# Altium schematic symbol library Levitador_GMI.SchLib: 37 symbols
Pins are listed as number, name and electrical type; pins without a type are passive.

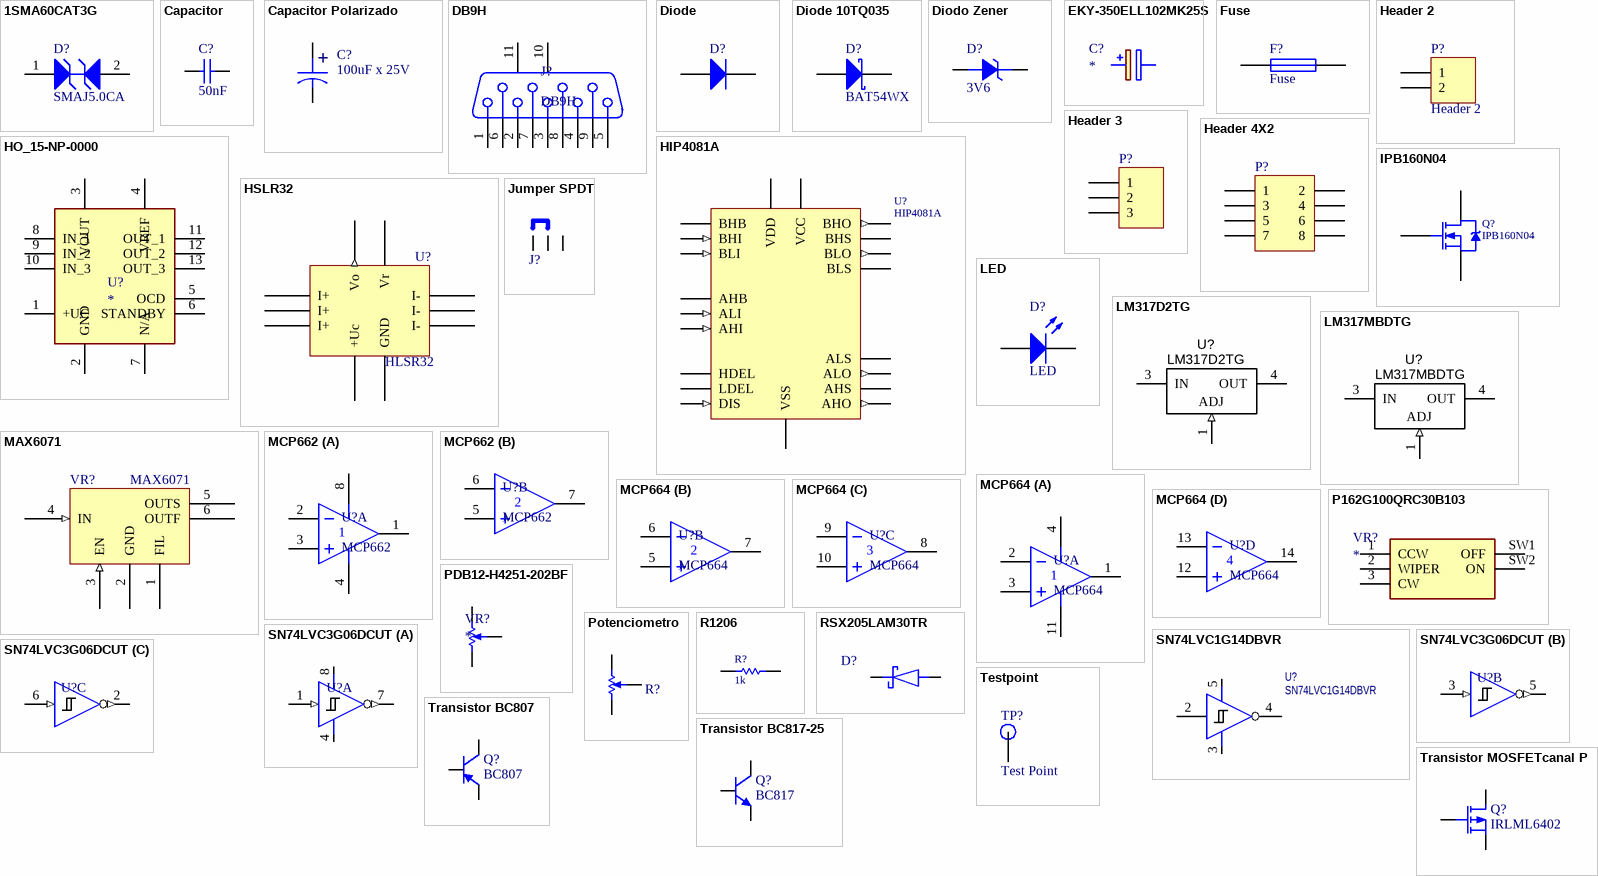
[diagram p0: symbols 1SMA60CAT3G to Transistor MOSFETcanal P]

## 1SMA60CAT3G
designator D?, comment SMAJ5.0CA
400 W Peak Power Zener Transient Voltage Suppressor, 2-Pin SMA, Pb-Free, Tape and Reel; Manufacturer: On Semiconductor; PartNumber: 1SMA60CAT3G; Direction: Bidirectional; IR Max (uA): 2.5; PPK Max (W): 400; V(BR) Typ (V): 70.21; DatasheetVersion: Rev. 12; PackageVersion: Rev. F, 11/2008; PackageReference: SMA-2-403D-02_F; PackageDescription: 2-Pin Small Molded Package, J-Bend Lead, Body 2.605 x 4.315 mm; Supplier 1: Digi-Key; Supplier Part Number 1: 1SMA60CAT3G-ND; Supplier 2: Newark; Supplier Part Number 2: 45J2425; Supplier 3: Mouser; Supplier Part Number 3: 863-1SMA60CAT3G; Packing: Tape and Reel; RoHS: Pb-Free; Mounting Technology: Surface Mount; ComponentLink1Description: Manufacturer URL; ComponentLink1URL: http://www.onsemi.com/; ComponentLink2Description: Datasheet; ComponentLink2URL: http://www.onsemi.com/pub_link/Collateral/1SMA10CAT3-D.PDF; ComponentLink3Description: Package Specification; ComponentLink3URL: http://www.onsemi.com/pub_link/Collateral/1SMA5913BT3-D.PDF; Value: SMAJ5.0CA; P/N: SMAJ5.0CA
footprint ONSC-SMA-2-403D-02_F_V (Molded, 2-Leads, Body 4.32x2.6mm)
pins: 1 A1, 2 A2

## Capacitor
designator C?  value 50nF  (hidden comment: Capacitor)
Manufacturer: Generic Components; Class: Passive; Published: 08/06/2000; Publisher: Altium Hobart Technology Centre; SubClass: Capacitor
footprint C1206
footprint 0603
pins: 1, 2

## Capacitor Polarizado
designator C?  value 100uF x 25V  (hidden comment: Capacitor Polarizado)
Text Field2: 20; P/N: EKY-350ELL222MM25S; ComponentLink1Description: New link; ComponentLink1URL: https://www.digikey.com/en/products/detail/united-chemi-con/EKY-350ELL222MM25S/756106
footprint Cap 47uFx50V (Capacitor SMD)
footprint Cap 10uF x 16V
footprint CAP470uFX16
footprint Cap 5x13 mm
footprint CAP470uFX16
footprint Capacitor Tantalio
pins: 1 +, 2 -

## DB9H
designator J?
CONN D-SUB RCPT 9POS R/A SLDR; Mfr PN: A-DF 09 A/KG-T4S; Manufacturer: Assmann WSW Components; Supplier 1 PN: AE10924-ND; Supplier 1: Digi-Key
footprint DB9H
pins: 1, 2, 3, 4, 5, 6, 7, 8, 9, 10 MH1, 11 MH2

## Diode
designator D?
Default Diode; Published: 8-Jun-2000; LatestRevisionDate: 17-Jul-2002; LatestRevisionNote: Re-released for DXP Platform.; PackageVersion: Sep-1996; PackageReference: SMC; Publisher: Altium Limited; PackageDescription: DO-214-AB/SMC; 2 C-Bend Leads; Body 7.9 x 5.9 mm, inc. leads (LxW); Code_JEDEC: DO-214-AB
footprint SMC (DO-214-AB/SMC; 2 C-Bend Leads; Body 7.9 x 5.9 mm, inc. leads (LxW))
simulation model DIODE (Diode)
signal-integrity model Diode
pins: 1 A, 2 K

## Diode 10TQ035
designator D?, comment BAT54WX
Schottky Rectifier; Note: Terminal 2 is the TAB and is electrically connected to the cathode; Published: 8-Jun-2000; LatestRevisionDate: 17-Jul-2002; LatestRevisionNote: Re-released for DXP Platform.; DatasheetDocument: PD-2.057B; PackageDocument: Feb-1998; PackageReference: TO-220AC; Publisher: Altium Limited; ComponentLink1Description: Manufacturer Link; ComponentLink1URL: http://www.irf.com/; ComponentLink2Description: Datasheet; ComponentLink2URL: http://www.irf.com/product-info/datasheets/data/10tq.pdf
footprint TO-220AC (TO, Thru-Hole, Vertical, Heatsink Mounted; 3 In-Line Leads (1 Absent); Pitch 2.54 mm)
simulation model 10TQ035 (DIODE)
footprint DO214AB
footprint SMC (DO-214-AB/SMC; 2 C-Bend Leads; Body 7.9 x 5.9 mm, inc. leads (LxW))
pins: 1 A, 2 K

## Diodo Zener
designator D?  value 3V6  (hidden comment: Diodo Zener)
SZ1SMB5915BT3G; Text Field1: 30; Text Field2: 20; Datasheet: https://ar.mouser.com/datasheet/2/308/1SMB5913BT3_D-2309637.pdf
footprint SMB (Para diodos como  4007, supresores, etc)
footprint SMB (Para diodos como  4007, supresores, etc)
pins: 1, 2

## EKY-350ELL102MK25S
designator C?
Capacitor Polarised; Manufacturer_Name: United Chemi-Con; Manufacturer_Part_Number: EKY-350ELL222MM25S; Datasheet Link: https://www.digikey.com/en/products/detail/united-chemi-con/EKY-350ELL222MM25S/756106; Height: 26.5mm; Mouser Part Number: 661-EKY350ELL102MK2; Mouser Price/Stock: https://www.mouser.com/Search/Refine.aspx?Keyword=661-EKY350ELL102MK2; Arrow Part Number: EKY-350ELL102MK25S; Arrow Price/Stock: https://www.arrow.com/en/products/eky-350ell102mk25s/united-chemi-con; Value: *
footprint CAPPRD500W60D1300H2650
pins: 1 +, 2 -

## Fuse
designator F?
Published: 8-Jun-2000; LatestRevisionDate: 17-Jul-2002; LatestRevisionNote: Re-released for DXP Platform.; PackageReference: PIN-W2/E2.8; Publisher: Altium Limited
footprint PIN-W2/E2.8 (Fuse; 2 Leads)
simulation model FUSE (Spice Subcircuit)
footprint R1206 (Chip Resistor, Body 3.0x1.5mm)
pins: 1, 2

## Header 2
designator P?
Header, 2-Pin; LatestRevisionDate: 17-Jul-2002; LatestRevisionNote: Re-released for DXP Platform.; Publisher: Altium Limited; Link: https://www.digikey.com/en/products/detail/te-connectivity-amp-connectors/282834-2/1150135
footprint HDR1X2 (Connector; Header; 2 Position)
signal-integrity model Connector
footprint SMKDS5-2-9.5 (Phoenix Contact; Terminal block; 2way; 32A max; 9.52mm pitch; 135°)
pins: 1, 2

## Header 3
designator P?  (value not drawn)
Header, 3-Pin; Manufacturer: Generic Components; Class: Connector; Link: https://www.digikey.com/en/products/detail/te-connectivity-amp-connectors/282834-3/1153264
signal-integrity model Connector
footprint HDR1X3 (Connector; Header; 3 Position)
pins: 1, 2, 3

## Header 4X2
designator P?
Header, 4-Pin, Dual row; LatestRevisionDate: 17-Jul-2002; LatestRevisionNote: Re-released for DXP Platform.; Publisher: Altium Limited
footprint HDR2X4 (Connector; Header; 4x2 Position)
signal-integrity model Connector
pins: 1, 2, 3, 4, 5, 6, 7, 8

## HIP4081A
designator U?
INTERSIL, 80V, 2.5A peak, High Frequency Full Bridge FET Driver; Manufacturer_Part_Number: HIP4081AIBZ; Datasheet: https://www.mouser.jp/datasheet/2/698/hip4081a-1528771.pdf
footprint SOIC20
pins: 1 BHB (power), 2 BHI (in), 3 DIS (in), 4 VSS (power), 5 BLI (in), 6 ALI (in), 7 AHI (in), 8 HDEL, 9 LDEL, 10 AHB (power), 11 AHO (out), 12 AHS, 13 ALO (out), 14 ALS, 15 VCC (power), 16 VDD (power), 17 BLS, 18 BLO (out), 19 BHS, 20 BHO (out)

## HO_15-NP-0000
designator U?
Integrated Circuit; Manufacturer_Part_Number: HO 15-NP-0000; Datasheet Link: http://www.farnell.com/datasheets/2150001.pdf; Height: 12mm
footprint HO15NP0000
pins: 1 +UC, 2 GND, 3 VOUT, 4 VREF, 5 OCD, 6 STANDBY, 7 N/A, 8 IN_1, 9 IN_2, 10 IN_3, 11 OUT_1, 12 OUT_2, 13 OUT_3

## HSLR32
designator U?, comment HLSR32
Hall Effect Current Sensor
footprint HSLR-P
pins: 1 Vr, 2 Vo (out), 3 GND (power), 4 +Uc (power), 5 I-, 6 I-, 7 I-, 8 I+, 9 I+, 10 I+

## IPB160N04
designator Q?
HEXFET N-Channel Power MOSFET; Manufacturer_Part_Number: IPB160N04S3H2ATMA1; PackageReference: PG-TO263-7-3; Datasheet: https://www.infineon.com/dgdl/Infineon-IPB160N04S3_H2-DS-v01_00-en.pdf?fileId=db3a304412b407950112b42b8da04548&ack=t
simulation model IRF630S (SUBCKT)
footprint TO263-7S
pins: 1 G, 2 S, 3 S, 4 D, 5 S, 6 S, 7 S

## Jumper SPDT
designator J?
Value: Pines 1x3
footprint Pines 1x3
pins: 1 P1, 2 C, 3 P2

## LED
designator D?
Typical RED GaAs LED; Published: 8-Jun-2000; LatestRevisionDate: 08-Jul-2005; LatestRevisionNote: Mech Layer 1 removed.; PackageReference: LED-1; Publisher: Altium Limited; PackageDescription: LED; 2 Leads
footprint LED 1206 RED (Led SMD 1206)
footprint LED 1206 RED (Led SMD 1206)
pins: 1 A, 2 K

## LM317D2TG
designator U?, comment Manufacturer Part Number 1: LM317D2TG  (hidden comment: Adjustable)
Voltage Regulator IC, D2PAK SMD, LM317D2TG; Manufacturer 1: ON Semiconductor; Voltage Regulator Type: Adjustable Positive Linear; Tolerance: 0.04%; Ratings: 40V; 1.5A; Value: variable; SCDType: spec*; Package / Case: D2PAK; Supplier 1: Digi-Key; Supplier Part Number 1: LM317D2TGOS-ND
footprint D2PAK-3 (D-PAK/TO-263-3; 3 Leads (1 Cropped); Body 14.7 (inc. leads) x 10.2 mm (LxW max))
pins: 1 ADJ (in), 3 IN (power), 4 OUT (power)

## LM317MBDTG
designator U?, comment Manufacturer Part Number 1: LM317MBDTG  (hidden comment: Adjustable)
Voltage Regulator IC, DPAK SMD, LM317MBDTG; Manufacturer 1: ON Semiconductor; Voltage Regulator Type: Adjustable Positive Linear; Tolerance: 0.04%; Ratings: 40V in-out; 500mA; Value: variable; SCDType: spec\; Package / Case: DPAK/TO-252; Supplier 1: Digi-Key; Supplier Part Number 1: LM317MBDTGOS-ND
footprint TO-252 (D-PAK/TO-252-AA; 3 Leads (1 Cropped); Body 10.3 (inc. leads) x 6.7 mm (LxW max))
pins: 1 ADJ (in), 3 IN (power), 4 OUT (power)

## MAX6071
designator VR?
Supplier 1: Mouser; Datasheet: https://ar.mouser.com/datasheet/2/256/MAX6070_MAX6071-217862.pdf; Supplier Part Number 1: 700-MAX6071BAUT41+T
footprint SOT23-6
pins: 1 FIL "Filter input", 2 GND (power) "Power ground", 3 EN (in) "Enable pin", 4 IN (in) "Input voltage", 5 OUTS "Voltage reference sense out", 6 OUTF "Voltage reference force out"

## MCP662
designator U?
Datasheet: https://ar.mouser.com/datasheet/2/268/22194B-77503.pdf
footprint SOIC8
part A pins: 1 OUT, 2 IN-, 3 IN+, 4 V- (power) "GND", 8 V+ (power) "Vcc"
part B pins: 5 IN+, 6 IN-, 7 OUT

## MCP664
designator U?
Part Number: MCP664-E/ST; Datasheet: https://ar.mouser.com/datasheet/2/268/20002194E-2448650.pdf
footprint SOIC14
footprint SOIC14
part A pins: 1 OUT, 2 IN-, 3 IN+, 4 V+ (power) "Vcc", 11 V- (power) "GND"
part B pins: 5 IN+, 6 IN-, 7 OUT
part C pins: 8 OUT, 9 IN-, 10 IN+
part D pins: 12 IN+, 13 IN-, 14 OUT

## P162G100QRC30B103
designator VR?
Variable Resistor; Manufacturer_Name: TT Electronics/BI Magnetics; Manufacturer_Part_Number: P162G100QRC30B103; Datasheet Link: https://www.ttelectronics.com/TTElectronics/media/ProductFiles/Potentiometers/Datasheets/P162.pdf; Height: 21mm
footprint P162G100QRC30B103
pins: 1 CCW, 2 WIPER, 3 CW, SW1 OFF, SW2 ON

## PDB12-H4251-202BF
designator VR?
Variable Resistor; Manufacturer_Name: Bourns; Manufacturer_Part_Number: PDB12-H4251-202BF; Datasheet Link: https://www.bourns.com/docs/Product-Datasheets/PDB12.pdf; Height: 25mm; Mouser Part Number: 652-PDB12-H4251202BF; Mouser Price/Stock: https://www.mouser.com/Search/Refine.aspx?Keyword=652-PDB12-H4251202BF; Arrow Part Number: PDB12-H4251-202BF; Arrow Price/Stock: https://www.arrow.com/en/products/pdb12-h4251-202bf/bourns
footprint PDB12H4251202BF
pins: 1 +, 2 W, 3 -, GND MH1 hidden, GND MH2 hidden

## Potenciometro
designator R?  (value not drawn)
Vertical - 5 pines; Value: 1k; Published: 17-Dec-2003; PackageReference: POT4MM-2; Datasheet: https://www.bourns.com/docs/Product-Datasheets/PDB12.pdf
footprint pote_5_pines_vertical
pins: 1 +, 2 W, 3 -
1 alternate drawing of the same symbol

## R1206
designator R?, comment 1k
Resistor Chip; 1/8W;; Manufacturer: Panasonic; Tolerance: 1%; LatestRevisionDate: 29/7/2021; PackageReference: 1206; PackageDescription: SMT Chip Resistor; Supplier 1: Digi-Key; Value: 1k
simulation model RESISTOR (Resistor)
footprint R1206
pins: 1, 2

## RSX205LAM30TR
designator D?  (value not drawn)
Schottky Diode; Manufacturer_Name: ROHM Semiconductor; Datasheet Link: https://fscdn.rohm.com/en/products/databook/datasheet/discrete/diode/schottky_barrier/rsx205lam30tr-e.pdf; Height: 1.05mm; Manufacturer_Part_Number: RSX205LAM30TR; Mouser Part Number: 755-RSX205LAM30TR; Mouser Price/Stock: https://www.mouser.co.uk/ProductDetail/ROHM-Semiconductor/RSX205LAM30TR?qs=gt1LBUVyoHmFfSK22qN0cQ%3D%3D
footprint SODFL4725X105N
pins: 1 K, 2 A

## SN74LVC1G14DBVR
designator U?
Schmitt-Trigger Inverter; Published: 8-Jun-2000; LatestRevisionDate: 13-Apr-2006; LatestRevisionNote: IPC-7351 Footprint Added.; DatasheetVersion: Jul-1998; PackageVersion: Jan-1998; PackageReference: D014; Publisher: Altium Limited; PackageDescription: 14-Pin Small Outline Integrated Circuit 1.27 mm Pitch; Code_IPC: SOIC127P600-14; ComponentLink1Description: Manufacturer Link; ComponentLink1URL: http://www.ti.com/; ComponentLink2Description: Datasheet; ComponentLink2URL: http://www-s.ti.com/sc/ds/sn74ahc14.pdf; ComponentLink3Description: Packaging Specification; ComponentLink3URL: http://focus.ti.com/lit/ml/mpds177/mpds177.pdf
footprint SOT23-5
pins: 2 A, 3 V- (power), 4 Y, 5 V+ (power)

## SN74LVC3G06DCUT
designator U?  (value not drawn)
Schmitt-Trigger Inverter; Manufacturer_Name: Texas Instruments; Manufacturer_Part_Number: SN74LVC3G06DCUTR; Datasheet Link: http://www.ti.com/lit/gpn/SN74LVC3G06; Height: 0.9mm; Mouser Part Number: 595-SN74LVC3G06DCUT; Mouser Price/Stock: https://www.mouser.com/Search/Refine.aspx?Keyword=595-SN74LVC3G06DCUT; Arrow Part Number: SN74LVC3G06DCUT; Arrow Price/Stock: https://www.arrow.com/en/products/sn74lvc3g06dcut/texas-instruments
footprint SOP50P310X90-8N
part A pins: 1 1A (in), 4 GND (power), 7 1Y (out), 8 Vcc (power)
part B pins: 3 2A (in), 5 2Y (out)
part C pins: 2 3Y (out), 6 3A (in)

## Testpoint
designator TP?, comment Test Point
Link: https://www.digikey.com/en/products/detail/keystone-electronics/5000/255326
footprint TestPoint Keystone 5000 Silver-Red
pins: 1

## Transistor BC807
designator Q?  value BC807
PNP General Purpose Amplifier; Manufacturer: Fairchild Semiconductor; Revised: 11-July-2000: SIM Model Added.; Class: Discrete; SubClass: BJT - Low Power; Published: 8/06/2000; Publisher: Altium Hobart Technology Centre
footprint SOT_23 NF
pins: 1 B, 2 E, 3 C

## Transistor BC817-25
designator Q?  value BC817
NPN General Purpose Amplifier; Manufacturer: Fairchild Semiconductor; Revised: 11-July-2000: SIM Model Added.; Class: Discrete; SubClass: BJT - Low Power; Published: 8/06/2000; Publisher: Altium Hobart Technology Centre
simulation model BC817-25 (NPN)
signal-integrity model BC817-25
footprint SOT_23 NF
pins: 1 B, 2 E, 3 C

## Transistor MOSFETcanal P
designator Q?  value IRLML6402
Transistor MOSFETcanal P; Manufacturer: Generic Components; Class: Discrete; SubClass: MOSFET - Low Power; Published: 08/06/2000; Publisher: Altium Hobart Technology Centre
simulation model PMOS (MOSFET-P)
footprint SOT_23 NF
pins: 1 G, 2 S, 3 D

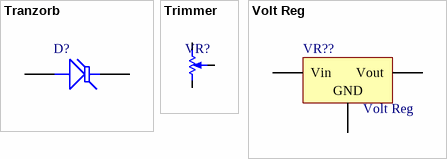
[diagram p1: symbols Tranzorb to Volt Reg]

## Tranzorb
designator D?
Transient Voltage Suppression (TVS) Diode; Published: 24-Mar-1999; LatestRevisionDate: 17-Jul-2002; LatestRevisionNote: Re-released for DXP Platform.; PackageReference: DO-7; Publisher: Altium Limited; PackageDescription: Axial Lead Diode
footprint DO-7 (Diode, Axial; Body 7 x 2.7 mm (LxDia. max), Lead Dia. 0.53 mm (max))
pins: 1 A, 2 K

## Trimmer
designator VR?, comment Trimmer (Thru-Hole)  (value not drawn)
Res Cermet Trimmer 500K Ohm 10% 0.5W 25(Elec)Turn 2.19mm (9.53 X 4.83 X 11.55mm) Pin Thru-Hole Tube; MP: 3296W-1-250; MF: {'manufacturer': u'Bourns'}; Value: *; Package: None; Price: None; Availability: Unavailable
footprint TRIM_3296W-1-250
footprint 3299Y1203LF
pins: 1 CCW, 2 W, 3 CW

## Volt Reg
designator VR??
Voltage Regulator; Published: 24-Mar-1999; LatestRevisionDate: 29-May-2009; LatestRevisionNote: IPC-7351 Footprint Added.; PackageReference: D2PAK; Publisher: Altium Limited; PackageDescription: 3-Pin Transistor Outline Package 2.54 mm Pitch, 15.1 mm Lead Span
footprint D2PAK_N (D2-PAK, 4-Leads, Body 8.8x10.4mm, Pitch 2.54mm, Lead Span 15.1mm, IPC Medium Density)
footprint D2PAK_L (D2-PAK, 4-Leads, Body 8.8x10.4mm, Pitch 2.54mm, Lead Span 15.1mm, IPC High Density)
footprint D2PAK_M (D2-PAK, 4-Leads, Body 8.8x10.4mm, Pitch 2.54mm, Lead Span 15.1mm, IPC Low Density)
footprint TO252-AA
pins: 1 Vin, 2 GND, 3 Vout